# Altium footprint library LQ-TC2&3MB-V5.PcbLib: 38 footprints (part 1 of 3)
Each footprint in its own frame and in the unit in brackets; x right, y up, seen from the top. Pads: shape width x height; smd on the part's side, far side on the other; paste and mask are expansions set on the pad; w line width, h text height; cw(c..) or ccw(c..) is an arc to the next point about the centre after c.
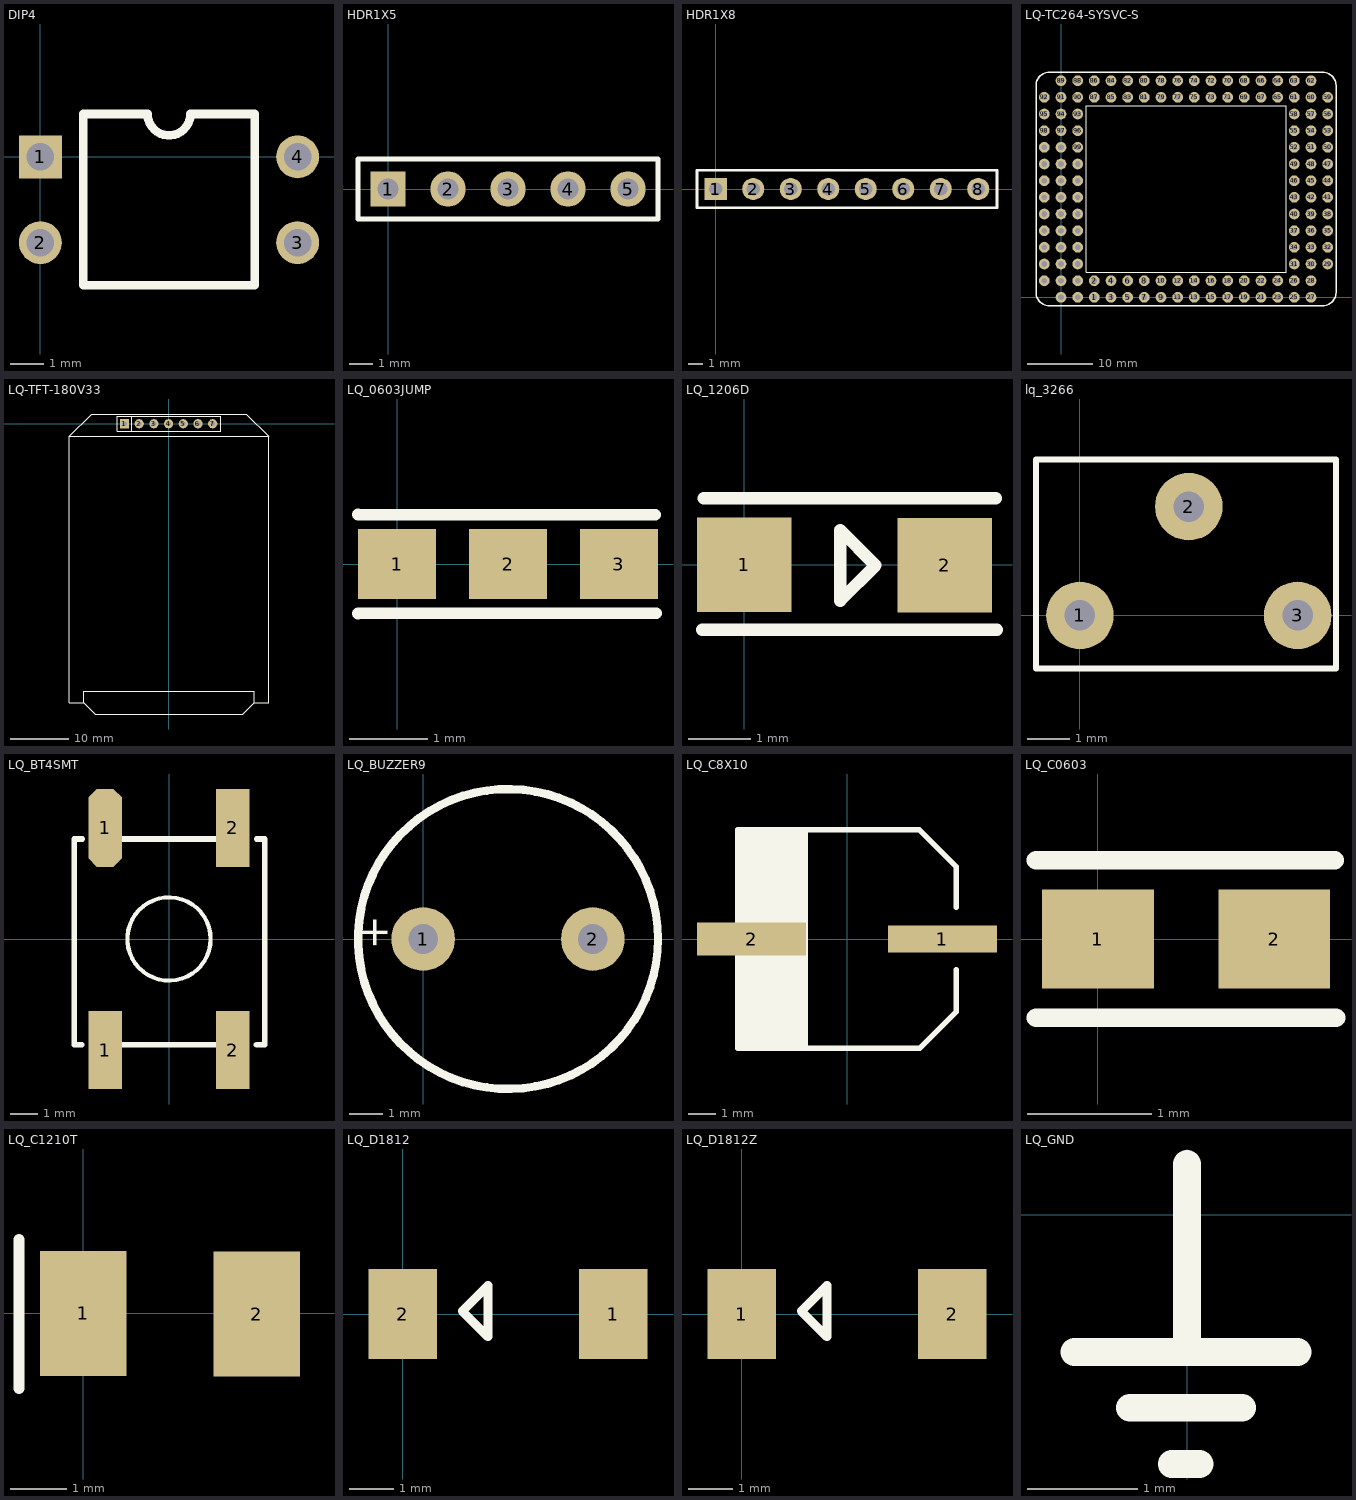
[diagram p0: the footprints below, top view; thin cyan lines are the x and y axes]

## DIP4 [mil]
pads (4):
  rect 50x50 hole 32: 1(0,0)
  round 50 hole 32: 2(0,-100) 3(300,-100) 4(300,0)
Top Overlay:
  lines w10: 50,-150 50,50 125,50 ccw(c150,50) 175,50 250,50 250,-150 50,-150
3D body "Switch-DIP-2.STEP": height 275.59, standoff -145.67, extent -44.88,-169.68 344.88,69.69

## HDR1X5 [mm] "Connector; Header; 5 Position"
pads (5):
  rect 1.5x1.5 hole 0.9: 1(0,0)
  round 1.5 hole 0.9: 2(2.54,0) 3(5.08,0) 4(7.62,0) 5(10.16,0)
Top Overlay:
  lines w0.2: -1.27,-1.27 11.43,-1.27 11.43,1.27 -1.27,1.27 -1.27,-1.27

## HDR1X8 [mm] "Connector; Header; 8 Position"
pads (8):
  rect 1.5x1.5 hole 0.9: 1(0,0)
  round 1.5 hole 0.9: 2(2.54,0) 3(5.08,0) 4(7.62,0) 5(10.16,0) 6(12.7,0) 7(15.24,0) 8(17.78,0)
Top Overlay:
  lines w0.2: -1.27,-1.27 19.05,-1.27 19.05,1.27 -1.27,1.27 -1.27,-1.27

## LQ-TC264-SYSVC-S [mm] "单片机核心板封装库"
pads (127):
  round 1.65 hole 0.88: 1(5.08,0) 2(5.08,2.54) 3(7.62,0) 4(7.62,2.54) 5(10.16,0) 6(10.16,2.54) 7(12.7,0) 8(12.7,2.54) 9(15.24,0) 10(15.24,2.54) 11(17.78,0) 12(17.78,2.54) 13(20.32,0) 14(20.32,2.54) 15(22.86,0) 16(22.86,2.54) 17(25.4,0) 18(25.4,2.54) 19(27.94,0) 20(27.94,2.54) 21(30.48,0) 22(30.48,2.54) 23(33.02,0) 24(33.02,2.54) 25(35.56,0) 26(35.56,2.54) 27(38.1,0) 28(38.1,2.54) 30(38.1,5.08) 31(35.56,5.08) 33(38.1,7.62) 34(35.56,7.62) 36(38.1,10.16) 37(35.56,10.16) 39(38.1,12.7) 40(35.56,12.7) 42(38.1,15.24) 43(35.56,15.24) 45(38.1,17.78) 46(35.56,17.78) 48(38.1,20.32) 49(35.56,20.32) 51(38.1,22.86) 52(35.56,22.86) 54(38.1,25.4) 55(35.56,25.4) 57(38.1,27.94) 58(35.56,27.94) 60(38.1,30.48) 61(35.56,30.48) 62(38.1,33.02) 63(35.56,33.02) 64(33.02,33.02) 65(33.02,30.48) 66(30.48,33.02) 67(30.48,30.48) 68(27.94,33.02) 69(27.94,30.48) 70(25.4,33.02) 71(25.4,30.48) 72(22.86,33.02) 73(22.86,30.48) 74(20.32,33.02) 75(20.32,30.48) 76(17.78,33.02) 77(17.78,30.48) 78(15.24,33.02) 79(15.24,30.48) 80(12.7,33.02) 81(12.7,30.48) 82(10.16,33.02) 83(10.16,30.48) 84(7.62,33.02) 85(7.62,30.48) 86(5.08,33.02) 87(5.08,30.48) 88(2.54,33.02) 89(0,33.02) 90(2.54,30.48) 91(0,30.48) 93(2.54,27.94) 94(0,27.94) 96(2.54,25.4) 97(0,25.4) 99(2.54,22.86) 100(0,22.86) 102(2.54,20.32) 103(0,20.32) 105(2.54,17.78) 106(0,17.78) 108(2.54,15.24) 109(0,15.24) 111(2.54,12.7) 112(0,12.7) 114(2.54,10.16) 115(0,10.16) 117(2.54,7.62) 118(0,7.62) 120(2.54,5.08) 121(0,5.08) 123(2.54,2.54) 124(0,2.54) 126(2.54,0) 127(0,0)
  round 1.65 hole 0.88 mask+0.102: 29(40.64,5.08) 32(40.64,7.62) 35(40.64,10.16) 38(40.64,12.7) 41(40.64,15.24) 44(40.64,17.78) 47(40.64,20.32) 50(40.64,22.86) 53(40.64,25.4) 56(40.64,27.94) 59(40.64,30.48) 92(-2.54,30.48) 95(-2.54,27.94) 98(-2.54,25.4) 101(-2.54,22.86) 104(-2.54,20.32) 107(-2.54,17.78) 110(-2.54,15.24) 113(-2.54,12.7) 116(-2.54,10.16) 119(-2.54,7.62) 122(-2.54,5.08) 125(-2.54,2.54)
Top Overlay:
  lines w0.15: 3.81,3.8 34.29,3.8 34.29,29.185 3.9,29.185 ; 3.81,3.861 3.81,29.185
  lines w0.2: -3.81,0.596 -3.81,32.29 cw(c-1.81,32.29) -1.81,34.29 39.91,34.29 cw(c39.91,32.29) 41.91,32.29 41.91,0.635 ; -3.81,0.73 ccw(c-1.81,0.73) -1.81,-1.27 40.132,-1.27 ; 39.91,-1.27 ccw(c39.91,0.73) 41.91,0.73

## LQ-TFT-180V33 [mm]
pads (7):
  rect 1.6x1.6 hole 0.82: 1(-7.62,0)
  round 1.6 hole 0.82: 2(-5.08,0) 3(-2.54,0) 4(0,0) 5(2.54,0) 6(5.08,0) 7(7.62,0)
Top Overlay:
  lines w0.2: -17.127,-2.203 -17.127,-48.203 -14.627,-48.203 ; -6.35,-1.27 -6.35,1.27 ; 17.273,-2.194 -17.128,-2.194 -13.249,1.685 -10.4,1.685 10.51,1.685 13.398,1.685 17.273,-2.19 17.273,-48.19 14.773,-48.19 ; -14.627,-48.203 -12.665,-50.165 -10.39,-50.165 10.51,-50.165 12.798,-50.165 14.773,-48.19 ; -14.627,-48.203 -14.627,-46.203 14.773,-46.203 14.773,-48.19 ; -8.89,-1.27 -8.89,1.27 9,1.27 9,-1.27 -8.89,-1.27

## LQ_0603JUMP [mm]
pads (3):
  rect 1x0.9 smd: 1(0,0) 2(1.422,0) 3(2.844,0)
Top Overlay:
  lines w0.15: -0.5,-0.635 3.32,-0.63 ; -0.5,0.635 3.31,0.63
3D body "LQ_R0603.step": height 0.23, standoff -0.23, extent -0.1,-0.39 1.5,0.41

## LQ_1206D [mil]
pads (2):
  rect 60x60 smd: 1(0,0) 2(127.56,-0.39)
Top Overlay:
  lines w7.87: -26.77,-41.34 160.63,-41.34 ; -25.59,42.13 159.84,42.13 ; 61,-22.88 61,22 83.44,-0.44 61,-22.88
3D body "LQ_Diode-SMD-1206.STEP": height 61.02, standoff 1.97, extent -4.33,-29.92 133.46,29.14

## lq_3266 [mil]
pads (3):
  round 62 hole 28: 1(0,0) 2(100,100) 3(200,0)
Top Overlay:
  lines w5.91: -40.37,141.73 -40.37,-48.73 235.22,-48.73 235.22,141.73 ; -40.37,143.31 235.22,143.31
3D body "3266.STEP": height 310, standoff -172, extent -25.59,-38.54 224.41,131.46

## LQ_BT4SMT [mm]
pads (4):
  rect 1.2x2.8 smd: 1(-2.3,-4) 2(2.3,-4) 2(2.3,4)
  oct 1.2x2.8 smd: 1(-2.3,4)
Top Overlay:
  circle w0.15: c0,0 r1.5
  lines w0.2: -3.14,-3.8 -3.418,-3.8 -3.418,3.6 -3.12,3.6 ; -1.68,-3.8 1.64,-3.8 ; -1.65,3.6 1.71,3.6 ; 3.15,-3.8 3.44,-3.8 3.44,3.6 3.16,3.6
3D body "User Library-PUSH BUTTON-3.step": height 4.54, standoff 0, extent -3,-5.08 3,4.92

## LQ_BUZZER9 [mil]
pads (2):
  round 75 hole 35: 1(0,0) 2(200,0)
Top Overlay:
  circle w10: c100,0 r176.78
  text "+" at -71.65,-12.6 h35.43
3D body "LQ_Buzzer_9mm.STEP": height 220.47, standoff -212.6, extent -79.92,-179.13 278.35,179.13

## LQ_C8X10 [mm]
pads (2):
  rect 4x1 smd: 1(3.5,0)
  rect 4x1.2 smd: 2(-3.5,0)
Top Overlay:
  rectangle: -4,-4 -1.43,4
  lines w0.2: 4,-1.13 4,-2.67 2.67,-4 -4,-4 -4,4 2.65,4 4,2.65 4,1.16
3D body "LQ_ALU-F_8.0x8.3x10.2.STEP": height 10.2, standoff 0, extent -4.95,-4.15 4.95,4.15

## LQ_C0603 [mm]
height 10
pads (2):
  rect 0.9x0.8 smd: 1(0,0) 2(1.422,0)
Top Overlay:
  lines w0.15: -0.5,-0.635 1.92,-0.635 ; -0.5,0.635 1.91,0.635
3D body "LQ_C0603.step": height 0.3, standoff 0, extent -0.08,-0.4 1.52,0.4

## LQ_C1210T [mm]
pads (2):
  rect 1.524x2.2 smd: 1(0,0) 2(3.06,-0.01)
Top Overlay:
  lines w0.2: -1.13,-1.32 -1.13,1.3
3D body "LQ_C3528TCaseB.STEP": height 1.9, standoff 0, extent -0.21,-1.41 3.29,1.39

## LQ_D1812 [mil]
pads (2):
  rect 60x78.74 smd: 1(185,0) 2(0,0)
Top Overlay:
  lines w7.87: 52.37,2.57 74.81,25.02 74.81,-19.87 52.37,2.57
3D body "Diode-SMA.step": height 102.36, standoff 1.02, extent -14.96,-54.71 201.58,55.52

## LQ_D1812Z [mil]
pads (2):
  rect 60x78.74 smd: 1(0,0) 2(185,0)
Top Overlay:
  lines w7.87: 52.37,2.57 74.81,25.02 74.81,-19.87 52.37,2.57
3D body "Diode-SMA.step": height 102.36, standoff 1.02, extent -14.96,-54.71 201.58,55.52

## LQ_GND [mm]
height 2.032
Top Overlay:
  lines w0.254: -1.026,-1.25 1.006,-1.25 ; -0.518,-1.758 0.498,-1.758 ; -0.14,-2.27 0.114,-2.27 ; 0,-1.23 0,0.46